# Altium schematic symbol library Planar ER23.Schlib: 1 symbol
Pins are listed as number, name and electrical type; pins without a type are passive.

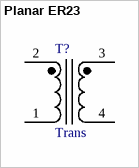
[diagram p0: symbol Planar ER23]

## Planar ER23
designator T?, comment Trans
Transformer
pins: 1, 2, 3, 4